# Altium footprint library Discrete_Oscillators_Cristal_SMD.PcbLib: 3 footprints
Each footprint in its own frame and in the unit in brackets; x right, y up, seen from the top. Pads: shape width x height; smd on the part's side, far side on the other; paste and mask are expansions set on the pad; w line width, h text height; cw(c..) or ccw(c..) is an arc to the next point about the centre after c.
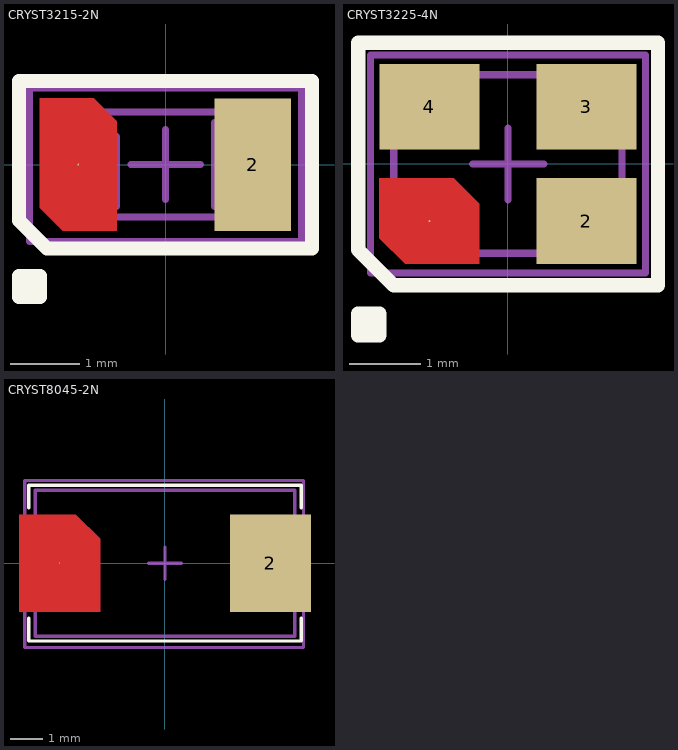
[diagram p0: the footprints below, top view; thin cyan lines are the x and y axes]

## CRYST3215-2N [mm]
height 0.75
pads (2):
  round 0.025 smd: 1(-1.25,0)
  rect 1.1x1.9 smd: 2(1.25,0)
Top Layer:
  region: -0.7,0.62 -1.03,0.95 -1.8,0.95 -1.8,-0.62 -1.47,-0.95 -0.7,-0.95
Top Overlay:
  lines w0.2: -2.1,-1.7 -1.799,-1.7 ; -1.9,-1.901 -1.9,-1.6 ; -2.1,-1.9 -1.8,-1.9 -1.8,-1.6 -2.1,-1.6 -2.1,-1.9 ; -2.1,-0.8 -2.1,1.2 2.1,1.2 2.1,-1.2 -1.7,-1.2 -2.1,-0.8
Top Package:
  lines w0.1: -1.6,-0.6 -0.7,-0.6 -0.7,0.4 -0.9,0.6 -1.6,0.6 ; 1.6,-0.6 0.7,-0.6 0.7,0.6 1.6,0.6 ; -1.6,-0.65 -1.6,0.65 -1.5,0.75 1.5,0.75 1.6,0.65 1.6,-0.65 1.5,-0.75 -1.5,-0.75 -1.6,-0.65
Top Comment:
  text ".Comment" at -1.703,1.309 h1.2
Top Designator:
  text ".Designator" at -2.581,1.35 h1.5
Top Border:
  lines w0.1: -0.498,-0.001 0.502,-0.001 ; 0.002,-0.501 0.002,0.499 ; -1.95,-1.1 -1.95,1.1 1.95,1.1 1.95,-1.1 -1.95,-1.1
3D body "FX135.step": height 0.8, standoff 0, extent -1.6,-0.75 1.6,0.75

## CRYST3225-4N [mm]
height 0.75
pads (4):
  round 0.025 smd: 1(-1.1,-0.8)
  rect 1.4x1.2 smd: 2(1.1,-0.8) 3(1.1,0.8) 4(-1.1,0.8)
Top Layer:
  region: -0.76,-0.2 -0.4,-0.56 -0.4,-1.4 -1.44,-1.4 -1.8,-1.04 -1.8,-0.2
Top Overlay:
  lines w0.2: -2.1,-2.2 -1.799,-2.2 ; -1.9,-2.401 -1.9,-2.1 ; -2.1,-2.4 -1.8,-2.4 -1.8,-2.1 -2.1,-2.1 -2.1,-2.4 ; -2.098,-1.202 -1.599,-1.701 2.102,-1.701 2.102,1.699 -2.098,1.699 -2.098,-1.202
Top Package:
  lines w0.1: -1.6,-0.45 -0.975,-0.45 -0.7,-0.725 -0.7,-1.25 ; -1.6,0.45 -0.7,0.45 -0.7,1.25 ; 0.7,-1.25 0.7,-0.45 1.6,-0.45 ; 0.7,1.25 0.7,0.45 1.6,0.45 ; -1.6,-1.15 -1.6,1.15 -1.5,1.25 1.5,1.25 1.6,1.15 1.6,-1.15 1.5,-1.25 -1.5,-1.25 -1.6,-1.15
Top Comment:
  text ".Comment" at -1.703,1.809 h1.2
Top Designator:
  text ".Designator" at -2.581,1.85 h1.5
Top Border:
  lines w0.1: -0.498,-0.001 0.502,-0.001 ; 0.002,-0.501 0.002,0.499 ; -1.925,-1.525 -1.925,1.525 1.925,1.525 1.925,-1.525 -1.925,-1.525
3D body "FA-238.step": height 0.61, standoff 0, extent -1.6,-1.25 1.6,1.25

## CRYST8045-2N [mm]
height 1.6
pads (2):
  round 0.025 smd: 1(-3.25,0)
  rect 2.5x3 smd: 2(3.25,0)
Top Layer:
  region: -2,-1.5 -4.5,-1.5 -4.5,1.5 -2.75,1.5 -2,0.75
Top Overlay:
  lines w0.1: -4.2,-1.7 -4.2,-2.4 4.2,-2.4 4.2,-1.7 ; -4.2,1.7 -4.2,2.4 4.2,2.4 4.2,1.7
Top Package:
  lines w0.1: -4,-2.25 -4,2.25 4,2.25 4,-2.25 -4,-2.25
Top Comment:
  text ".Comment" at -2.127,-0.489 h1.5
Top Designator:
  text ".Designator" at -3.436,-0.466 h2
Top Border:
  lines w0.1: -0.498,-0.001 0.502,-0.001 ; 0.002,-0.501 0.002,0.499 ; -4.325,-2.6 4.275,-2.6 4.275,2.55 -4.325,2.55 -4.325,-2.6
3D body "Crystal ABM2.STEP": height 1.4, standoff 0, extent -4,-2.25 4,2.25